# EAGLE library part DRV8305 (library DRV8305)
BLDC/PMSM Gate Driver w/ Current Sense Amplifiers Variants: …5: VREG/VREF = 5v 50mA out …3: VREG/VREF = 3.3v 50mA out …N: VREG/VREF = VREF in …-: 250 reel …R: 1000 reel
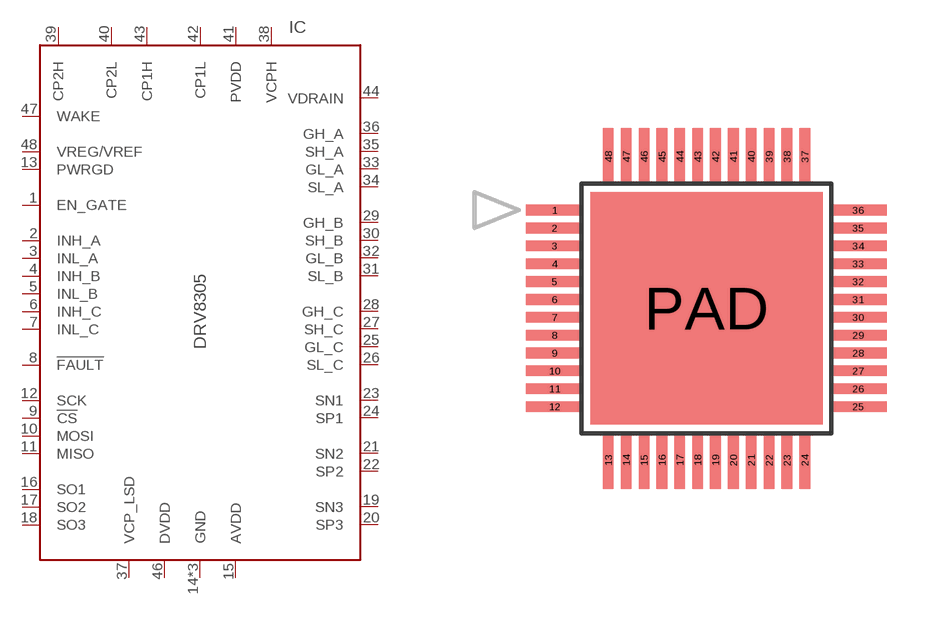
[diagram p0: symbol with the pads of TQFP-48-0.5-7X7; footprint TQFP-48-0.5-7X7]

Designator prefix IC

## DRV83053PHP (MARK: DRV83053; MF: Texas Instruments; MPN: DRV83053PHP), DRV83055PHP (MARK: DRV83055; MF: Texas Instruments; MPN: DRV83055PHP), DRV8305NPHP (MARK: DRV8305N; MF: Texas Instruments; MPN: DRV8305NPHP)  [TQFP-48-0.5-7X7]
1  EN_GATE  in
2  INH_A  in
3  INL_A  in
4  INH_B  in
5  INL_B  in
6  INH_C  in
7  INL_C  in
8  !FAULT  oc
9  !CS  in
10  MOSI  in
11  MISO  out
12  SCK  in
13  PWRGD  oc
14  GND  pwr
15  AVDD
16  SO1  out
17  SO2  out
18  SO3  out
19  SN3  in
20  SP3  in
21  SN2  in
22  SP2  in
23  SN1  in
24  SP1  in
25  GL_C  out
26  SL_C  in
27  SH_C  in
28  GH_C  out
29  GH_B  out
30  SH_B  in
31  SL_B  in
32  GL_B  out
33  GL_A  out
34  SL_A  in
35  SH_A  in
36  GH_A  out
37  VCP_LSD
38  VCPH
39  CP2H
40  CP2L
41  PVDD  pwr
42  CP1L
43  CP1H
44  VDRAIN  pwr
45  GND  pwr
46  DVDD
47  WAKE  in
48  VREG/VREF
PAD  GND  pwr

## DRV83053PHPR (MARK: DRV83053; MF: Texas Instruments; MPN: DRV83053PHPR), DRV83055PHPR (MARK: DRV83055; MF: Texas Instruments; MPN: DRV83055PHPR), DRV8305NPHPR (MARK: DRV8305N; MF: Texas Instruments; MPN: DRV8305NPHPR)  [TQFP-48-0.5-7X7]
Pads as for TQFP-48-0.5-7X7

## Footprint TQFP-48-0.5-7X7 (pad centres in mm)
smd 1.6 x 0.3: 1 -4.25,2.75; 2 -4.25,2.25; 3 -4.25,1.75; 4 -4.25,1.25; 5 -4.25,0.75; 6 -4.25,0.25; 7 -4.25,-0.25; 8 -4.25,-0.75; 9 -4.25,-1.25; 10 -4.25,-1.75; 11 -4.25,-2.25; 12 -4.25,-2.75; 25 4.25,-2.75; 26 4.25,-2.25; 27 4.25,-1.75; 28 4.25,-1.25; 29 4.25,-0.75; 30 4.25,-0.25; 31 4.25,0.25; 32 4.25,0.75; 33 4.25,1.25; 34 4.25,1.75; 35 4.25,2.25; 36 4.25,2.75
smd 0.3 x 1.6: 13 -2.75,-4.25; 14 -2.25,-4.25; 15 -1.75,-4.25; 16 -1.25,-4.25; 17 -0.75,-4.25; 18 -0.25,-4.25; 19 0.25,-4.25; 20 0.75,-4.25; 21 1.25,-4.25; 22 1.75,-4.25; 23 2.25,-4.25; 24 2.75,-4.25; 37 2.75,4.25; 38 2.25,4.25; 39 1.75,4.25; 40 1.25,4.25; 41 0.75,4.25; 42 0.25,4.25; 43 -0.25,4.25; 44 -0.75,4.25; 45 -1.25,4.25; 46 -1.75,4.25; 47 -2.25,4.25; 48 -2.75,4.25
smd 6.5 x 6.5: PAD 0,0